# Altium schematic symbol library LDOs.SchLib: 7 symbols
Pins are listed as number, name and electrical type; pins without a type are passive.

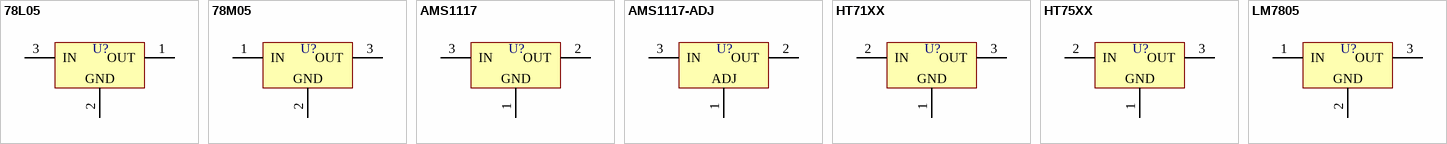
[diagram p0: symbols 78L05 to LM7805]

## 78L05
designator U?  (value not drawn)
LDO 5V, 100mA
footprint SOT-89
pins: 1 OUT, 2 GND, 3 IN

## 78M05
designator U?  (value not drawn)
LDO 5V, 500mA
footprint TO-252
pins: 1 IN, 2 GND, 3 OUT

## AMS1117
designator U?  (value not drawn)
LDO
footprint SOT-223
footprint SOT-89
pins: 1 GND, 2 OUT, 3 IN

## AMS1117-ADJ
designator U?, comment AMS1117  (value not drawn)
LDO
footprint SOT-223
footprint SOT-89
pins: 1 ADJ, 2 OUT, 3 IN

## HT71XX
designator U?, comment HT71xx  (value not drawn)
LDO
footprint SOT-89
pins: 1 GND, 2 IN, 3 OUT

## HT75XX
designator U?  (value not drawn)
LDO
footprint SOT-89
pins: 1 GND, 2 IN, 3 OUT

## LM7805
designator U?  (value not drawn)
LDO 5V, 1.5A
footprint TO-220
pins: 1 IN, 2 GND, 3 OUT